# EAGLE library part RN42 (library stepOSP)
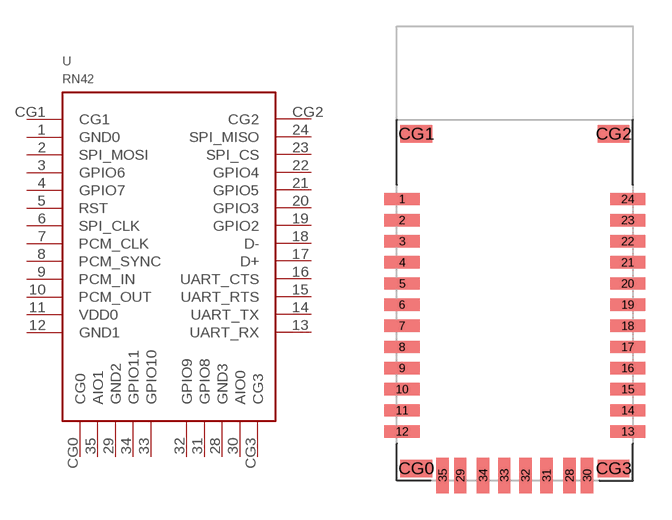
[diagram p38: symbol with the pads of RN42_ANT; footprint RN42_ANT]

Designator prefix -

## RN42  [RN42_ANT]
1  GND0
2  SPI_MOSI
3  GPIO6
4  GPIO7
5  RST
6  SPI_CLK
7  PCM_CLK
8  PCM_SYNC
9  PCM_IN
10  PCM_OUT
11  VDD0
12  GND1
13  UART_RX
14  UART_TX
15  UART_RTS
16  UART_CTS
17  D+
18  D-
19  GPIO2
20  GPIO3
21  GPIO5
22  GPIO4
23  SPI_CS
24  SPI_MISO
28  GND3
29  GND2
30  AIO0
31  GPIO8
32  GPIO9
33  GPIO10
34  GPIO11
35  AIO1
CG0  CG0
CG1  CG1
CG2  CG2
CG3  CG3

## Footprint RN42_ANT (pad centres in mm)
smd 2 x 0.7: 1 0.3,16; 2 0.3,14.8; 3 0.3,13.6; 4 0.3,12.4; 5 0.3,11.2; 6 0.3,10; 7 0.3,8.8; 8 0.3,7.6; 9 0.3,6.4; 10 0.3,5.2; 11 0.3,4; 12 0.3,2.8; 13 13.1,2.8; 14 13.1,4; 15 13.1,5.2; 16 13.1,6.4; 17 13.1,7.6; 18 13.1,8.8; 19 13.1,10; 20 13.1,11.2; 21 13.1,12.4; 22 13.1,13.6; 23 13.1,14.8; 24 13.1,16
smd 0.7 x 2: 28 9.8,0.3; 29 3.6,0.3; 30 10.8,0.3; 31 8.5,0.3; 32 7.3,0.3; 33 6.1,0.3; 34 4.9,0.3; 35 2.6,0.3
smd 1.8 x 1: CG0 1.1,0.7; CG1 1.1,19.7; CG2 12.3,19.7; CG3 12.3,0.7